# Altium footprint library std-smt.PcbLib: 52 footprints (part 2 of 4)
Each footprint in its own frame and in the unit in brackets; x right, y up, seen from the top. Pads: shape width x height; smd on the part's side, far side on the other; paste and mask are expansions set on the pad; w line width, h text height; cw(c..) or ccw(c..) is an arc to the next point about the centre after c.
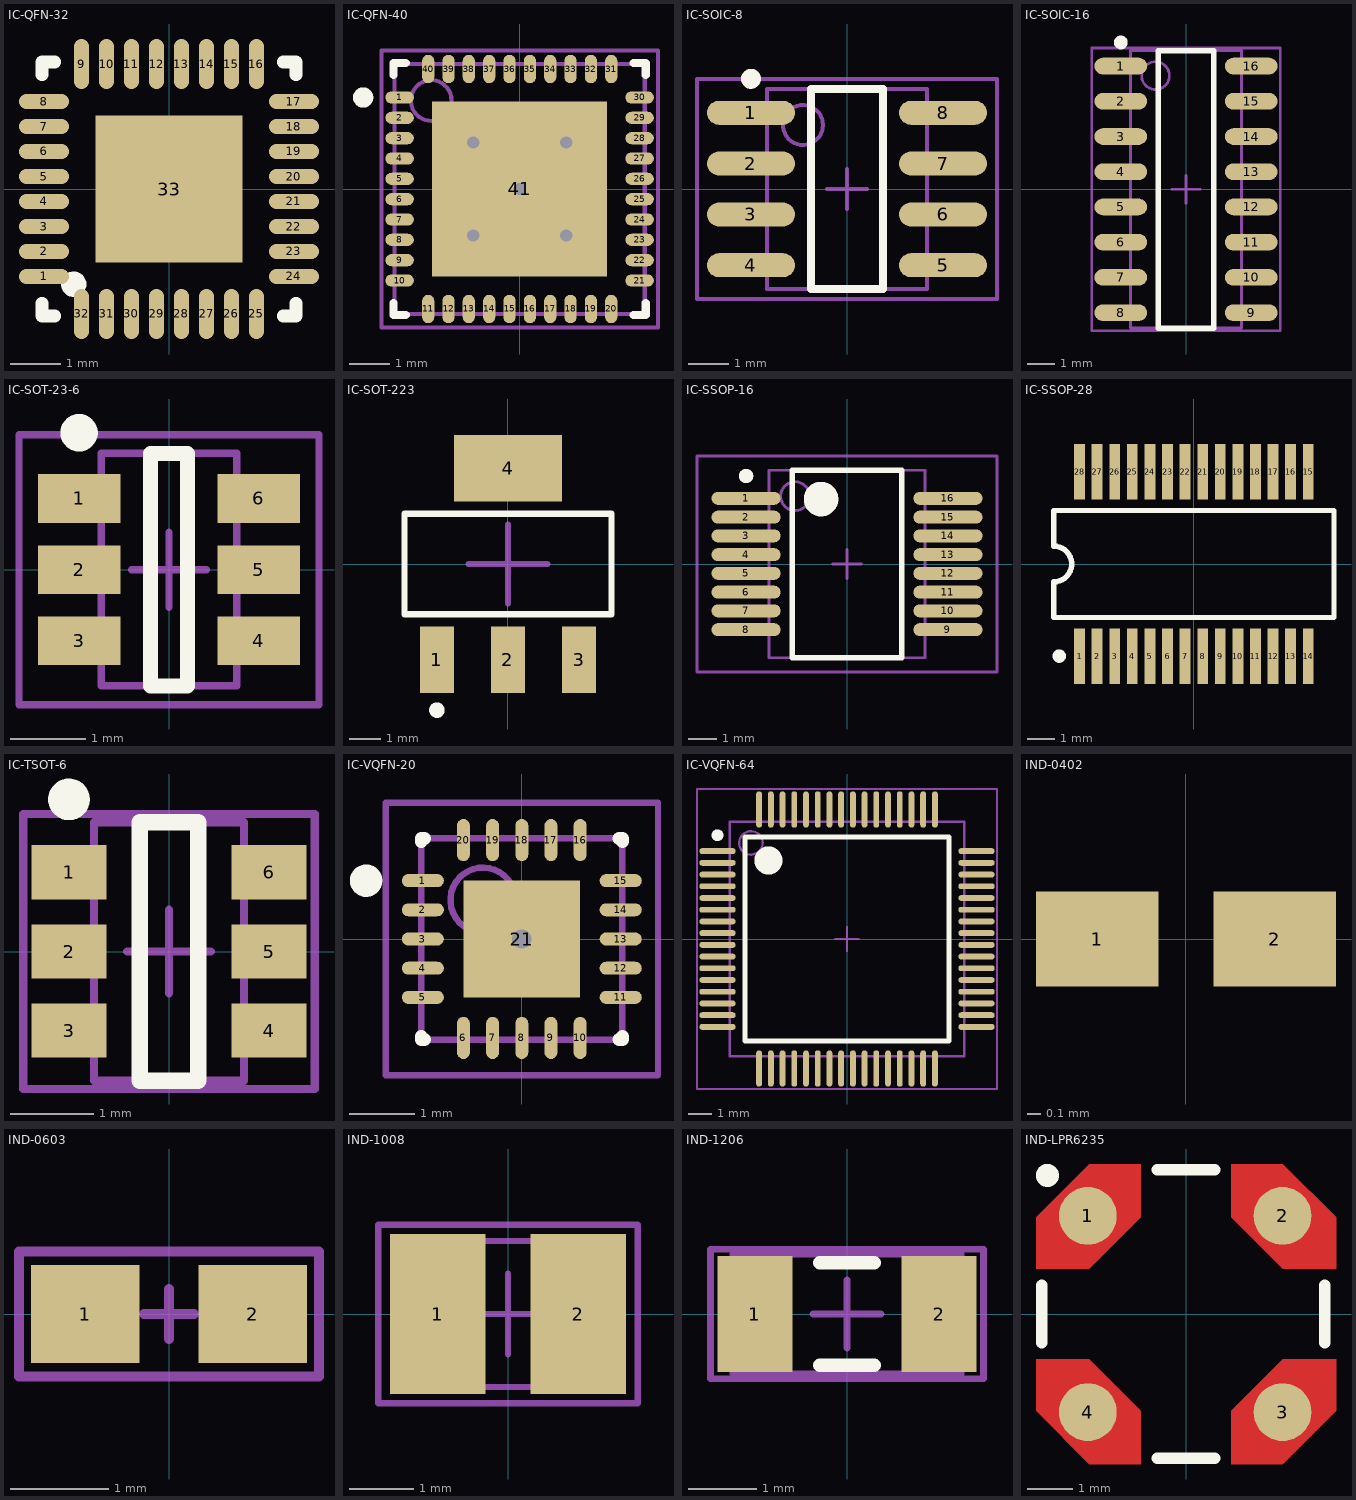
[diagram p1: the footprints below, top view; thin cyan lines are the x and y axes]

## IC-QFN-32 [mm] "QFN-32"
height 0.8
pads (33):
  oval 1x0.3 smd: 1(-2.5,-1.75) 2(-2.5,-1.25) 3(-2.5,-0.75) 4(-2.5,-0.25) 5(-2.5,0.25) 6(-2.5,0.75) 7(-2.5,1.25) 8(-2.5,1.75) 17(2.5,1.75) 18(2.5,1.25) 19(2.5,0.75) 20(2.5,0.25) 21(2.5,-0.25) 22(2.5,-0.75) 23(2.5,-1.25) 24(2.5,-1.75)
  oval 0.3x1 smd: 9(-1.75,2.5) 10(-1.25,2.5) 11(-0.75,2.5) 12(-0.25,2.5) 13(0.25,2.5) 14(0.75,2.5) 15(1.25,2.5) 16(1.75,2.5) 25(1.75,-2.5) 26(1.25,-2.5) 27(0.75,-2.5) 28(0.25,-2.5) 29(-0.25,-2.5) 30(-0.75,-2.5) 31(-1.25,-2.5) 32(-1.75,-2.5)
  rect 2.95x2.95 smd: 33(0,0)
Top Overlay:
  circle w0.254: c-1.905,-1.905 r0.127
  lines w0.254: -2.54,-2.286 -2.54,-2.54 -2.286,-2.54 ; -2.54,2.286 -2.54,2.54 -2.286,2.54 ; 2.286,-2.54 2.54,-2.54 2.54,-2.286 ; 2.286,2.54 2.54,2.54 2.54,2.286
3D body "User Library-HVQFN-32.step": height 0.87, standoff -0.13, extent -2.5,-2.5 2.5,2.5

## IC-QFN-40 [mm] "QFN, 40-Leads, Body 6x6mm, Pitch 0.5mm,"
height 1
pads (41):
  oval 0.7x0.3 smd: 1(-2.95,2.25) 2(-2.95,1.75) 3(-2.95,1.25) 4(-2.95,0.75) 5(-2.95,0.25) 6(-2.95,-0.25) 7(-2.95,-0.75) 8(-2.95,-1.25) 9(-2.95,-1.75) 10(-2.95,-2.25) 21(2.95,-2.25) 22(2.95,-1.75) 23(2.95,-1.25) 24(2.95,-0.75) 25(2.95,-0.25) 26(2.95,0.25) 27(2.95,0.75) 28(2.95,1.25) 29(2.95,1.75) 30(2.95,2.25)
  oval 0.3x0.7 smd: 11(-2.25,-2.95) 12(-1.75,-2.95) 13(-1.25,-2.95) 14(-0.75,-2.95) 15(-0.25,-2.95) 16(0.25,-2.95) 17(0.75,-2.95) 18(1.25,-2.95) 19(1.75,-2.95) 20(2.25,-2.95) 31(2.25,2.95) 32(1.75,2.95) 33(1.25,2.95) 34(0.75,2.95) 35(0.25,2.95) 36(-0.25,2.95) 37(-0.75,2.95) 38(-1.25,2.95) 39(-1.75,2.95) 40(-2.25,2.95)
  rect 4.3x4.3 smd: 41(0,0)
via 0,0 diameter 0.7 hole 0.3
via 1.143,1.143 diameter 0.7 hole 0.3
via -1.143,1.143 diameter 0.7 hole 0.3
via 1.143,-1.143 diameter 0.7 hole 0.3
via -1.143,-1.143 diameter 0.7 hole 0.3
Top Overlay:
  circle w0.25: c-3.85,2.25 r0.125
  lines w0.2: -3.1,-2.8 -3.1,-3.1 -2.8,-3.1 ; -3.1,2.8 -3.1,3.1 -2.8,3.1 ; 2.8,-3.1 3.1,-3.1 3.1,-2.8 ; 2.8,3.1 3.1,3.1 3.1,2.8
Mechanical 13:
  circle w0.1: c-2.175,2.175 r0.5
  lines w0.1: -3.075,-3.075 -3.075,3.075 3.075,3.075 3.075,-3.075 -3.075,-3.075
Mechanical 15:
  lines w0.1: -0.5,0 0.5,0 ; 0,-0.5 0,0.5 ; -3.4,-3.4 -3.4,3.4 3.4,3.4 3.4,-3.4 -3.4,-3.4
3D body "QFN-40.step": height 1.04, standoff -0.01, extent -3.075,-3.073 3.075,3.077

## IC-SOIC-8 [mm] "SOIC, 8-Leads, Body 4.9x3.8mm, Pitch 1.27mm, IPC Medium Density"
height 1.75
pads (8):
  oval 2.2x0.6 smd: 1(-2.4,1.905) 2(-2.4,0.635) 3(-2.4,-0.635) 4(-2.4,-1.905) 5(2.4,-1.905) 6(2.4,-0.635) 7(2.4,0.635) 8(2.4,1.905)
Top Overlay:
  circle w0.25: c-2.4,2.755 r0.125
  lines w0.2: -0.9,-2.5 -0.9,2.5 0.9,2.5 0.9,-2.5 -0.9,-2.5
Mechanical 13:
  circle w0.1: c-1.1,1.6 r0.5
  lines w0.1: -2,-2.5 -2,2.5 2,2.5 2,-2.5 -2,-2.5
Mechanical 15:
  lines w0.1: -0.5,0 0.5,0 ; 0,-0.5 0,0.5 ; -3.75,-2.75 -3.75,2.75 3.75,2.75 3.75,-2.75 -3.75,-2.75
3D body "User Library-SOIC-8-1.step": height 1.75, standoff 0, extent -3,-2.45 3,2.45

## IC-SOIC-16 [mm] "SOIC Narrow, 16-Leads, Body 9.9x3.9mm, Pitch 1.27mm"
height 1.91
pads (16):
  oval 1.9x0.6 smd: 1(-2.35,4.445) 2(-2.35,3.175) 3(-2.35,1.905) 4(-2.35,0.635) 5(-2.35,-0.635) 6(-2.35,-1.905) 7(-2.35,-3.175) 8(-2.35,-4.445) 9(2.35,-4.445) 10(2.35,-3.175) 11(2.35,-1.905) 12(2.35,-0.635) 13(2.35,0.635) 14(2.35,1.905) 15(2.35,3.175) 16(2.35,4.445)
Top Overlay:
  circle w0.25: c-2.35,5.295 r0.125
  lines w0.2: -1,-5 -1,5 1,5 1,-5 -1,-5
Mechanical 13:
  circle w0.1: c-1.1,4.1 r0.5
  lines w0.1: -2,-5 -2,5 2,5 2,-5 -2,-5
Mechanical 15:
  lines w0.1: -0.5,0 0.5,0 ; 0,-0.5 0,0.5 ; -3.4,-5.1 -3.4,5.1 3.4,5.1 3.4,-5.1 -3.4,-5.1
3D body "SOIC16.step": height 1.65, standoff 0, extent -3.04,-5 3.04,5

## IC-SOT-23-6 [mm] "SOT23, 6-Leads, Body 2.9x1.6mm, Pitch 0.95mm, Lead Span 2.7mm, IPC Medium Density"
height 1.45
pads (6):
  rect 1.1x0.65 smd: 1(-1.2,0.95) 2(-1.2,0) 3(-1.2,-0.95) 4(1.2,-0.95) 5(1.2,0) 6(1.2,0.95)
Top Overlay:
  circle w0.25: c-1.2,1.825 r0.125
  lines w0.2: -0.25,-1.55 0.25,-1.55 0.25,1.55 -0.25,1.55 -0.25,-1.55
Mechanical 13:
  lines w0.1: -0.9,-1.55 -0.9,1.55 0.9,1.55 0.9,-1.55 -0.9,-1.55
Mechanical 15:
  lines w0.1: -0.5,0 0.5,0 ; 0,-0.5 0,0.5 ; -2,-1.8 -2,1.8 2,1.8 2,-1.8 -2,-1.8
3D body "User Library-sot236.step": height 1, standoff 0, extent -1.17,-1.46 1.17,1.46

## IC-SOT-223 [mm] "SOT-223/SC-73; 4 Leads; Body 6.7 x 7.3 mm, inc. leads (LxW max)"
height 1.8
pads (4):
  rect 1.1x2.15 smd: 1(-2.3,-3.1) 2(0,-3.1) 3(2.3,-3.1)
  rect 3.5x2.15 smd: 4(0,3.1)
Top Overlay:
  circle w0.25: c-2.3,-4.725 r0.125
  lines w0.2: -3.35,-1.625 3.35,-1.625 3.35,1.625 -3.35,1.625 -3.35,-1.625
Mechanical 15:
  lines w0.203: -1.27,0 1.27,0 ; 0,-1.27 0,1.27
3D body "SOT-223.step": height 1.86, standoff -0.04, extent -3.321,-3.674 3.379,3.53

## IC-SSOP-16 [mm] "SOP, 16-Leads, Body 6.2x5.3mm, Pitch 0.65mm, IPC Low Density"
height 2
pads (16):
  oval 2.4x0.45 smd: 1(-3.5,2.275) 2(-3.5,1.625) 3(-3.5,0.975) 4(-3.5,0.325) 5(-3.5,-0.325) 6(-3.5,-0.975) 7(-3.5,-1.625) 8(-3.5,-2.275) 9(3.5,-2.275) 10(3.5,-1.625) 11(3.5,-0.975) 12(3.5,-0.325) 13(3.5,0.325) 14(3.5,0.975) 15(3.5,1.625) 16(3.5,2.275)
Top Overlay:
  circle w0.25: c-3.5,3.05 r0.125
  circle w0.6: c-0.9,2.25 r0.3
  lines w0.2: -1.9,-3.25 -1.9,3.25 1.9,3.25 1.9,-3.25 -1.9,-3.25
Mechanical 13:
  circle w0.1: c-1.8,2.35 r0.5
  lines w0.1: -2.7,-3.25 -2.7,3.25 2.7,3.25 2.7,-3.25 -2.7,-3.25
Mechanical 15:
  lines w0.1: -0.5,0 0.5,0 ; 0,-0.5 0,0.5 ; -5.2,-3.75 -5.2,3.75 5.2,3.75 5.2,-3.75 -5.2,-3.75
3D body "User Library-ssop16p500x440ls065h200.step": height 2, standoff 0, extent -3.2,-2.5 3.2,2.5

## IC-SSOP-28 [mm] "SSOP, Plastic; 28 Leads; Body Width 5.3 mm; Pitch 0.65 mm"
height 2
pads (28):
  rect 0.4x2.05 smd: 1(-4.225,-3.4) 2(-3.575,-3.4) 3(-2.925,-3.4) 4(-2.275,-3.4) 5(-1.625,-3.4) 6(-0.975,-3.4) 7(-0.325,-3.4) 8(0.325,-3.4) 9(0.975,-3.4) 10(1.625,-3.4) 11(2.275,-3.4) 12(2.925,-3.4) 13(3.575,-3.4) 14(4.225,-3.4) 15(4.225,3.4) 16(3.575,3.4) 17(2.925,3.4) 18(2.275,3.4) 19(1.625,3.4) 20(0.975,3.4) 21(0.325,3.4) 22(-0.325,3.4) 23(-0.975,3.4) 24(-1.625,3.4) 25(-2.275,3.4) 26(-2.925,3.4) 27(-3.575,3.4) 28(-4.225,3.4)
Top Overlay:
  circle w0.25: c-4.975,-3.4 r0.125
  lines w0.2: -5.175,-1.975 -5.175,-0.658 ccw(c-5.175,0) -5.175,0.658 -5.175,1.975 5.175,1.975 5.175,-1.975 -5.175,-1.975
3D body "User Library-SSOP-28-FT232RL.step": height 2.16, standoff 0, extent -5.165,-3.878 5.165,3.878

## IC-TSOT-6 [mm] "SOT23, 6-Leads, Body 2.9x1.6mm, Pitch 0.95mm, Lead Span 2.8mm, IPC High Density"
height 1.1
pads (6):
  rect 0.9x0.65 smd: 1(-1.2,0.95) 2(-1.2,0) 3(-1.2,-0.95) 4(1.2,-0.95) 5(1.2,0) 6(1.2,0.95)
Top Overlay:
  circle w0.25: c-1.2,1.825 r0.125
  lines w0.2: -0.35,-1.55 -0.35,1.55 0.35,1.55 0.35,-1.55 -0.35,-1.55
Mechanical 13:
  lines w0.1: -0.9,-1.55 0.9,-1.55 0.9,1.55 -0.9,1.55 -0.9,-1.55
Mechanical 15:
  lines w0.1: -0.5,0 0.5,0 ; 0,-0.5 0,0.5 ; -1.75,-1.65 1.75,-1.65 1.75,1.65 -1.75,1.65 -1.75,-1.65
3D body "User Library-TSOT-23.step": height 0.86, standoff 0, extent -1.405,-1.5 1.405,1.5

## IC-VQFN-20 [mm] "VQFN, 20-Leads, Body 3,1x3,1mm (max), Pitch 0,45mm, IPC Medium Density"
height 0.8
pads (21):
  oval 0.65x0.2 smd: 1(-1.525,0.9) 2(-1.525,0.45) 3(-1.525,0) 4(-1.525,-0.45) 5(-1.525,-0.9) 11(1.525,-0.9) 12(1.525,-0.45) 13(1.525,0) 14(1.525,0.45) 15(1.525,0.9)
  oval 0.2x0.65 smd: 6(-0.9,-1.525) 7(-0.45,-1.525) 8(0,-1.525) 9(0.45,-1.525) 10(0.9,-1.525) 16(0.9,1.525) 17(0.45,1.525) 18(0,1.525) 19(-0.45,1.525) 20(-0.9,1.525)
  rect 1.8x1.8 smd: 21(0,0)
via 0,0 diameter 0.7 hole 0.3
Top Overlay:
  circle w0.25: c-2.4,0.9 r0.125
  lines w0.2: -1.55,-1.5 -1.55,-1.55 -1.5,-1.55 ; -1.55,1.5 -1.55,1.55 -1.5,1.55 ; 1.5,-1.55 1.55,-1.55 1.55,-1.5 ; 1.5,1.55 1.55,1.55 1.55,1.5
Mechanical 13:
  circle w0.1: c-0.6,0.6 r0.5
  lines w0.1: -1.55,-1.55 1.55,-1.55 1.55,1.55 -1.55,1.55 -1.55,-1.55
Mechanical 15:
  lines w0.1: -0.5,0 0.5,0 ; 0,-0.5 0,0.5 ; -2.1,-2.1 2.1,-2.1 2.1,2.1 -2.1,2.1 -2.1,-2.1
3D body "QFN-20.step": height 0.62, standoff -0.08, extent -1.5,-1.5 1.5,1.5

## IC-VQFN-64 [mm] "Shrink QFP, 64-Leads, Body 10x10mm, Pitch 0.5mm, IPC High Density"
height 1.7
pads (64):
  oval 1.55x0.25 smd: 1(-5.525,3.75) 2(-5.525,3.25) 3(-5.525,2.75) 4(-5.525,2.25) 5(-5.525,1.75) 6(-5.525,1.25) 7(-5.525,0.75) 8(-5.525,0.25) 9(-5.525,-0.25) 10(-5.525,-0.75) 11(-5.525,-1.25) 12(-5.525,-1.75) 13(-5.525,-2.25) 14(-5.525,-2.75) 15(-5.525,-3.25) 16(-5.525,-3.75) 33(5.525,-3.75) 34(5.525,-3.25) 35(5.525,-2.75) 36(5.525,-2.25) 37(5.525,-1.75) 38(5.525,-1.25) 39(5.525,-0.75) 40(5.525,-0.25) 41(5.525,0.25) 42(5.525,0.75) 43(5.525,1.25) 44(5.525,1.75) 45(5.525,2.25) 46(5.525,2.75) 47(5.525,3.25) 48(5.525,3.75)
  oval 0.25x1.55 smd: 17(-3.75,-5.525) 18(-3.25,-5.525) 19(-2.75,-5.525) 20(-2.25,-5.525) 21(-1.75,-5.525) 22(-1.25,-5.525) 23(-0.75,-5.525) 24(-0.25,-5.525) 25(0.25,-5.525) 26(0.75,-5.525) 27(1.25,-5.525) 28(1.75,-5.525) 29(2.25,-5.525) 30(2.75,-5.525) 31(3.25,-5.525) 32(3.75,-5.525) 49(3.75,5.525) 50(3.25,5.525) 51(2.75,5.525) 52(2.25,5.525) 53(1.75,5.525) 54(1.25,5.525) 55(0.75,5.525) 56(0.25,5.525) 57(-0.25,5.525) 58(-0.75,5.525) 59(-1.25,5.525) 60(-1.75,5.525) 61(-2.25,5.525) 62(-2.75,5.525) 63(-3.25,5.525) 64(-3.75,5.525)
Top Overlay:
  circle w0.6: c-3.35,3.35 r0.3
  circle w0.25: c-5.525,4.425 r0.125
  lines w0.2: -4.35,-4.35 4.35,-4.35 4.35,4.35 -4.35,4.35 -4.35,-4.35
Mechanical 13:
  circle w0.1: c-4.1,4.1 r0.5
  lines w0.1: -5,-5 5,-5 5,5 -5,5 -5,-5
Mechanical 15:
  lines w0.1: -0.5,0 0.5,0 ; 0,-0.5 0,0.5 ; -6.4,-6.4 6.4,-6.4 6.4,6.4 -6.4,6.4 -6.4,-6.4
3D body "QFP65.step": height 1, standoff 0, extent -5.791,-5.787 5.79,5.787

## IND-0402 [mm] "Inductor, SMD, 0402"
height 0.508
pads (2):
  rect 0.9x0.7 smd: 1(-0.65,0) 2(0.65,0)
3D body "0402-ind.step": height 0.6, standoff 0, extent -0.5,-0.25 0.5,0.25

## IND-0603 [mm] "SMD inductor, 0603"
height 2.413
pads (2):
  rect 1.1x1 smd: 1(-0.85,0) 2(0.85,0)
Mechanical 15:
  lines w0.1: -0.254,0 0.254,0 ; 0,-0.254 0,0.254 ; -1.524,-0.635 1.524,-0.635 1.524,0.635 -1.524,0.635 -1.524,-0.635
3D body "0603-ind.step": height 0.95, standoff 0, extent -0.8,-0.4 0.8,0.4

## IND-1008 [mm] "SMD Inductor, 1008"
height 2
pads (2):
  rect 1.5x2.5 smd: 1(-1.1,0) 2(1.1,0)
Mechanical 13:
  lines w0.1: -1.397,-1.143 1.397,-1.143 1.397,1.143 -1.397,1.143 -1.397,-1.143
Mechanical 15:
  lines w0.1: -0.635,0 0.635,0 ; 0,-0.635 0,0.635 ; -2.032,-1.397 2.032,-1.397 2.032,1.397 -2.032,1.397 -2.032,-1.397
3D body "Coilcraft-1008HT-DEFAULT.step": height 1.13, standoff -0.01, extent -1.345,-1.165 1.345,1.165

## IND-1206 [mm] "SMD inductor, 1206"
height 0.635
pads (2):
  rect 1.1x1.7 smd: 1(-1.35,0) 2(1.35,0)
Top Overlay:
  lines w0.2: -0.4,-0.75 0.4,-0.75 ; -0.4,0.75 0.4,0.75
Mechanical 13:
  lines w0.1: -1.675,-0.875 1.675,-0.875 1.675,0.875 -1.675,0.875 -1.675,-0.875
Mechanical 15:
  lines w0.1: -0.5,0 0.5,0 ; 0,-0.5 0,0.5 ; -2,-0.95 2,-0.95 2,0.95 -2,0.95 -2,-0.95
3D body "1206-ind.step": height 1.81, standoff -0.4, extent -1.651,-0.8 1.677,0.8

## IND-LPR6235 [mil] "Coilcraft LPR6235 Step Up Flyback Transformer"
height 157.48
pads (4):
  round 50 smd: 1(-85,85) 2(83.66,85) 3(83.66,-85) 4(-85,-85)
Top Layer:
  region: -83.66,129.92 -39.37,129.92 -39.37,83.66 -83.66,39.37 -129.92,39.37 -129.92,83.66
  region: -129.92,-83.66 -129.92,-39.37 -83.66,-39.37 -39.37,-83.66 -39.37,-129.92 -83.66,-129.92
  region: 83.66,-129.92 39.37,-129.92 39.37,-83.66 83.66,-39.37 129.92,-39.37 129.92,-83.66
  region: 129.92,83.66 129.92,39.37 83.66,39.37 39.37,83.66 39.37,129.92 83.66,129.92
Top Overlay:
  circle w10: c-120,120 r5
  lines w10: -125,-25 -125,25 ; -25,-125 25,-125 ; -25,125 25,125 ; 120,-25 120,25
3D body "Coilcraft-LPR6235.step": height 140.75, standoff 0, extent -119.1,-119.58 120.08,119.59